# Altium schematic symbol library Connector-DC.SchLib: 3 symbols
Pins are listed as number, name and electrical type; pins without a type are passive.

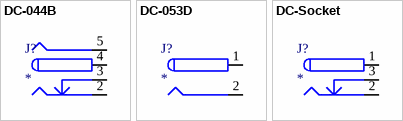
[diagram p0: symbols DC-044B to DC-Socket]

## DC-044B
designator J?
DC电源座子; Manufacturer_Name: *; Manufacturer_Part_Number: *
footprint DC-044B
pins: 2 (power), 3 (power), 4 (power), 5

## DC-053D
designator J?
DC电源座子; Manufacturer_Name: *; Manufacturer_Part_Number: *
footprint DC-053D-25A-1
footprint DC-053D-20A-1
pins: 1 (power), 2 (power)

## DC-Socket
designator J?
DC电源座子; Manufacturer_Name: *; Manufacturer_Part_Number: *
footprint DC-005 (5.5X2.1mm)
pins: 1 (power), 2 (power), 3 (power)